# Altium footprint library AltiumDesigner.PcbLib: 1 footprints
Each footprint in its own frame and in the unit in brackets; x right, y up, seen from the top. Pads: shape width x height; smd on the part's side, far side on the other; paste and mask are expansions set on the pad; w line width, h text height; cw(c..) or ccw(c..) is an arc to the next point about the centre after c.
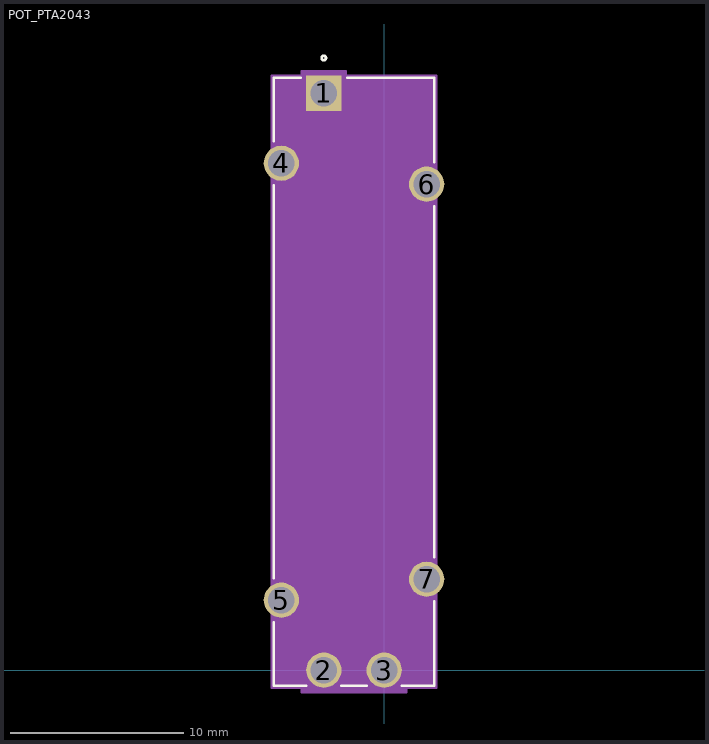
[diagram p0: the footprint, top view; thin cyan lines are the x and y axes]

## POT_PTA2043 [mil]
pads (7):
  rect 80x80 hole 60 mask+0: 1(-137,1310)
  round 80 hole 60 mask+0: 2(-137,0) 3(0,0) 4(-233.5,1151) 5(-233.5,159) 6(96.5,1103.5) 7(96.5,206.5)
Top Overlay:
  circle w6: c-137,1390 r5
  lines w6: -250.5,108.69 -250.5,-35 -176.93,-35 ; -250.5,209.31 -250.5,1100.69 ; -250.5,1201.31 -250.5,1345 -190.1,1345 ; -97.07,-35 -39.93,-35 ; -83.9,1345 113.5,1345 113.5,1153.81 ; 39.93,-35 113.5,-35 113.5,156.19 ; 113.5,256.81 113.5,1053.19
Mechanical 13:
  circle w0: c-137,1325 r5
  region: -18.5,364 -118.5,364 -118.5,939 -18.5,939
  lines w1: -245.5,-30 108.5,-30 108.5,1340 -245.5,1340 -245.5,-30
  lines w6: -118.5,364 -118.5,946 -18.5,946 -18.5,364 -118.5,364
Mechanical 15:
  region: 118.5,-40 50,-40 50,-50 -187,-50 -187,-40 -255.5,-40 -255.5,1350 -187,1350 -187,1360 -87,1360 -87,1350 118.5,1350
  lines w6: -255.5,-40 -187,-40 -187,-50 50,-50 50,-40 118.5,-40 118.5,1350 -87,1350 -87,1360 -187,1360 -187,1350 -255.5,1350 -255.5,-40
3D body: height 10, standoff 0, extent 0,0 10,10